# EAGLE library part ESP8266-03 (library lio)
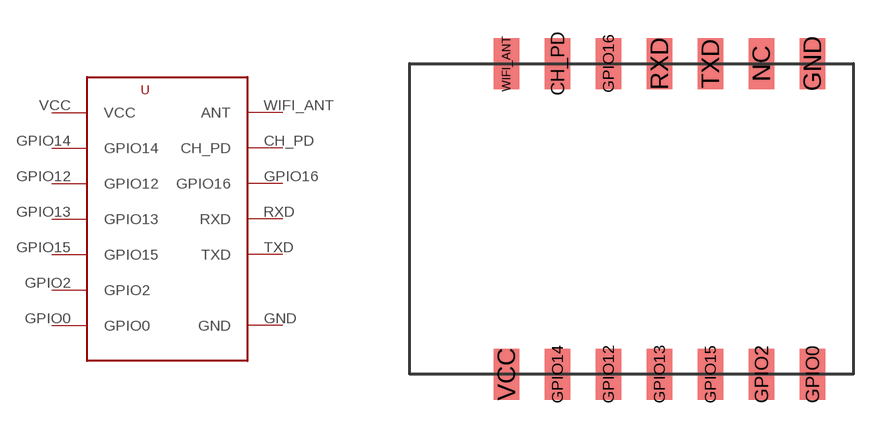
[diagram p18: symbol with the pads of ESP-03; footprint ESP-03]

Designator prefix -

## ESP8266-03  [ESP-03]
CH_PD  CH_PD  in
GND  GND  pwr
GPIO0  GPIO0
GPIO2  GPIO2
GPIO12  GPIO12
GPIO13  GPIO13
GPIO14  GPIO14
GPIO15  GPIO15
GPIO16  GPIO16
RXD  RXD  in
TXD  TXD  out
VCC  VCC  pwr
WIFI_ANT  ANT

## Footprint ESP-03 (pad centres in mm)
smd 1 x 2: CH_PD 0.4,6.1; GND 10.4,6.1; GPIO0 10.4,-6.1; GPIO2 8.4,-6.1; GPIO12 2.4,-6.1; GPIO13 4.4,-6.1; GPIO14 0.4,-6.1; GPIO15 6.4,-6.1; GPIO16 2.4,6.1; NC 8.4,6.1; RXD 4.4,6.1; TXD 6.4,6.1; VCC -1.6,-6.1; WIFI_ANT -1.6,6.1